# Altium schematic symbol library GRM1555C1H102JA01J.SchLib: 1 symbol
Pins are listed as number, name and electrical type; pins without a type are passive.

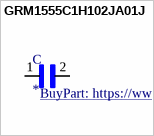
[diagram p0: symbol GRM1555C1H102JA01J]

## GRM1555C1H102JA01J
designator C
SMD Capacitor C0G(EIA) with Capacitance: 1000pF Tol. 5%. Rated Voltage: 50Vdc; MP: GRM1555C1H102JA01J; MF: Murata; SnapEDA_Link: https://www.snapeda.com/parts/GRM1555C1H102JA01J/Murata/view-part/4381656/?ref=snap; Mouser-Purchase-URL: https://snapeda.com/shop?store=Mouser&id=4381656; Price: None; Availability: Warning; DigiKey-Purchase-URL: https://snapeda.com/shop?store=DigiKey&id=4381656; Package: 1005 Taiyo Yuden; Value: *; BuyPart: https://www.snapeda.com/parts/GRM1555C1H102JA01J/Murata/view-part/4381656/?ref=eda
footprint CAPC1005X55N
pins: 1, 2